# Altium schematic symbol library 0ZCJ0050FF2G.SchLib: 1 symbol
Pins are listed as number, name and electrical type; pins without a type are passive.

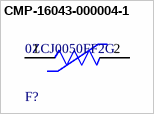
[diagram p0: symbol CMP-16043-000004-1]

## CMP-16043-000004-1
designator F?, comment 0ZCJ0050FF2G
PTC RESET FUSE 8V 500MA 1206; Time to Trip: 0.1s; Max Current Rating: 100A; Trip Current: 1A; Hold Current: 500mA; Packaging: Tape and Reel; Package Quantity: 1; Max Operating Temperature: 85°C; Min Operating Temperature: -40°C; Lead Free: Lead Free; Case/Package: 1206; Case Code (Metric): 3216; Mount: Surface Mount; Case Code (Imperial): 1206; Contact Plating: Tin
footprint FP-0ZCJ0050FF2G-MFG
pins: 1, 2